# Altium schematic symbol library SCH - PASSIVES - RESISTOR.SCHLIB: 1 symbol
Pins are listed as number, name and electrical type; pins without a type are passive.

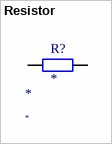
[diagram p0: symbol Resistor]

## Resistor
designator R?
SMT Resistor; Supplier Device Package: *; Value: *
pins: 1, 2